# Altium integrated library Zilog Logic Counter.IntLib: 23 symbols
Pins are listed as number, name and electrical type; pins without a type are passive.

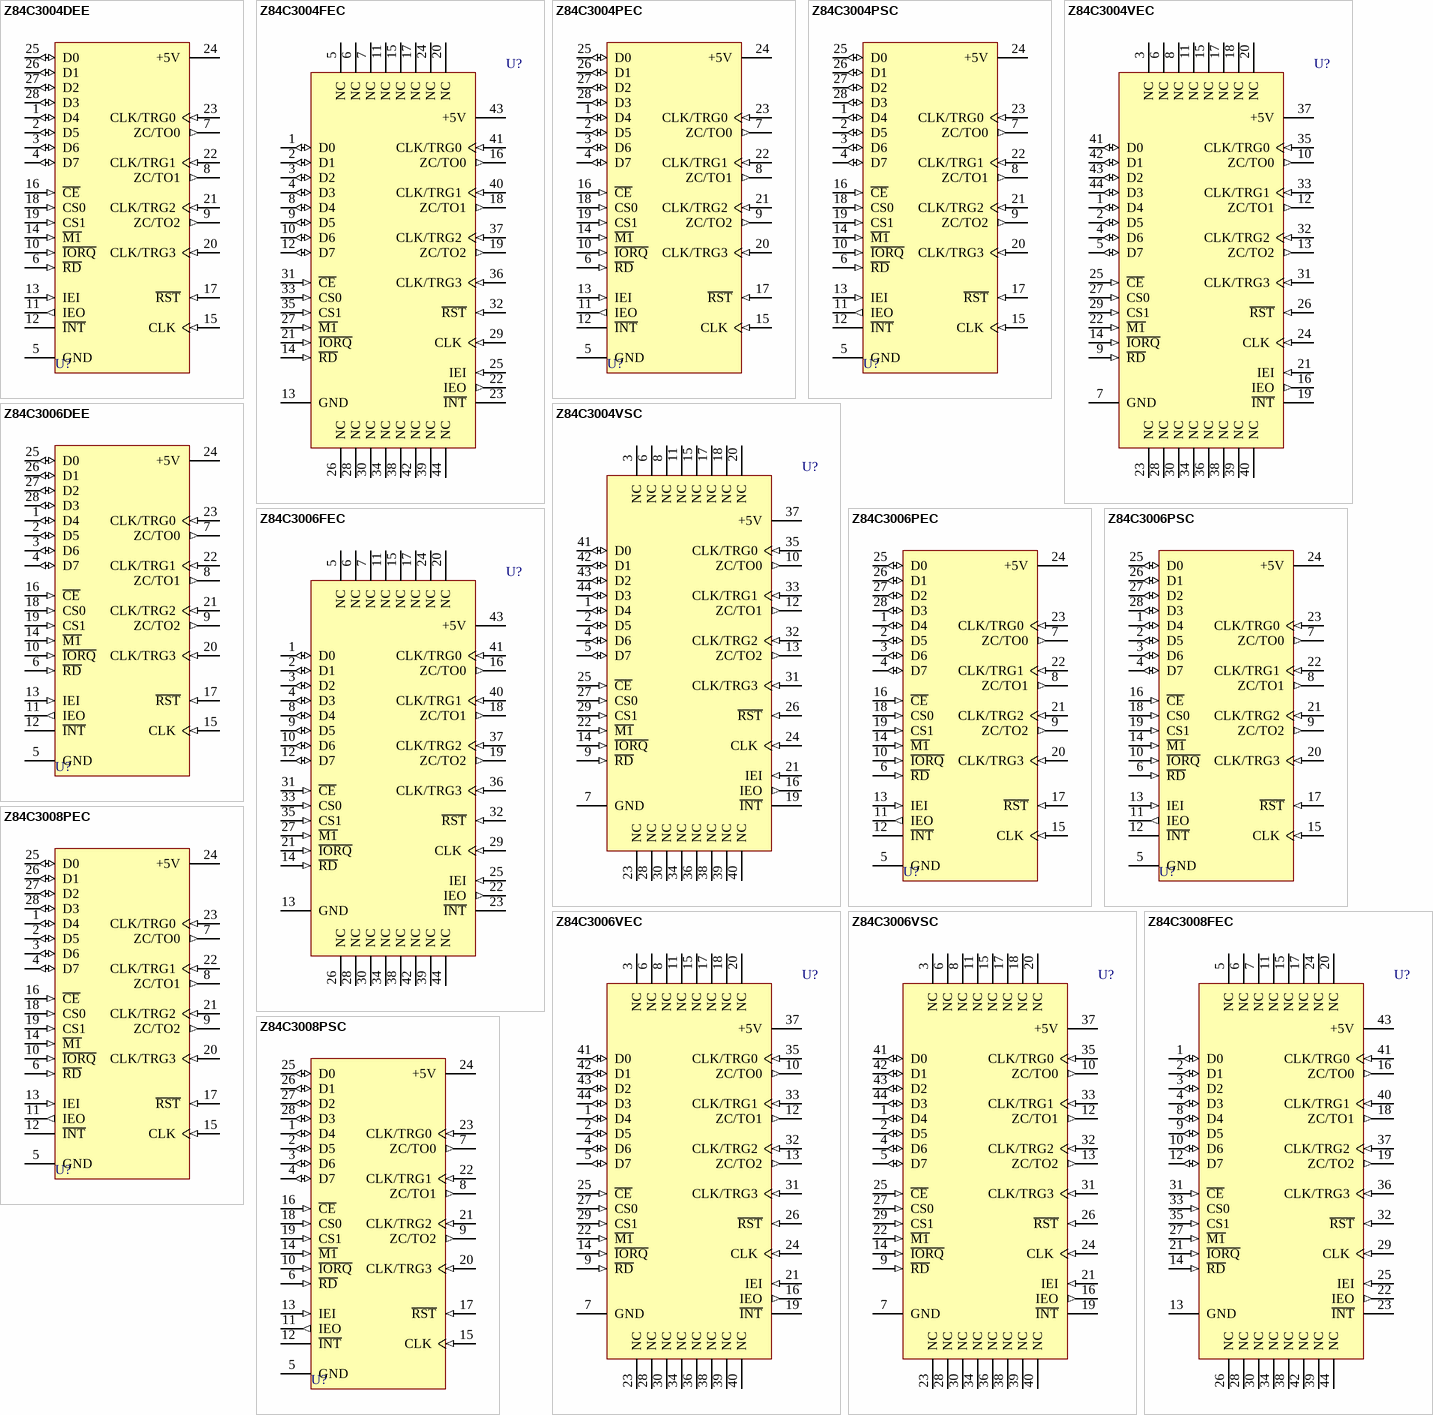
[diagram p0: symbols Z84C3004DEE to Z84C3008PSC]

## Z84C3004DEE
designator U?
CMOS Four-Channel Counter/Timer Circuit; Note: Pin(s) 28 "No Connection" and not drawn.; Published: 15-Apr-2002; LatestRevisionDate: 04-Mar-2005; LatestRevisionNote: Stylized 3D Model Added.; DatasheetVersion: 2001; PackageVersion: 2001; PackageReference: CerDIP28; Publisher: Altium Limited; PackageDescription: DIP; 28 Leads; Row Spacing 15.24 mm; Pitch 2.54 mm; ComponentLink1Description: Manufacturer Link; ComponentLink1URL: http://www.zilog.com/; ComponentLink2Description: Datasheet; ComponentLink2URL: http://www.zilog.com/docs/z80/um0081.pdf
footprint CerDIP28 (DIP; 28 Leads; Row Spacing 15.24 mm; Pitch 2.54 mm)
3D model PDIP28 (DIP; 28 Leads; Row Spacing 15.24 mm; Pitch 2.54 mm)
pins: 1 D4 (io), 2 D5 (io), 3 D6 (io), 4 D7 (io), 5 GND (power), 6 ~{RD} (in), 7 ZC/TO0 (out), 8 ZC/TO1 (out), 9 ZC/TO2 (out), 10 ~{IORQ} (in), 11 IEO (out), 12 ~{INT} (oc), 13 IEI (in), 14 ~{M1} (in), 15 CLK (in), 16 ~{CE} (in), 17 ~{RST} (in), 18 CS0 (in), 19 CS1 (in), 20 CLK/TRG3 (in), 21 CLK/TRG2 (in), 22 CLK/TRG1 (in), 23 CLK/TRG0 (in), 24 +5V (power), 25 D0 (io), 26 D1 (io), 27 D2 (io), 28 D3 (io)

## Z84C3004FEC
designator U?
CMOS Four-Channel Counter/Timer Circuit; Published: 15-Apr-2002; LatestRevisionDate: 13-Apr-2006; LatestRevisionNote: IPC-7351 Footprint Added.; DatasheetVersion: 2001; PackageReference: PQFP44; Publisher: Altium Limited; PackageDescription: 44-Pin Quad Flat Pack 0.8 mm Pitch; ComponentLink1Description: Manufacturer Link; ComponentLink1URL: http://www.zilog.com/; ComponentLink2Description: Datasheet; ComponentLink2URL: http://www.zilog.com/docs/z80/um0081.pdf
footprint PQFP44_N (QFP, 44-Leads, Body 10x10mm, Pitch 0.8mm, IPC Medium Density)
footprint PQFP44_L (QFP, 44-Leads, Body 10x10mm, Pitch 0.8mm, IPC High Density)
footprint PQFP44_M (QFP, 44-Leads, Body 10x10mm, Pitch 0.8mm, IPC Low Density)
3D model Z84C30-PQFP44 (44-Pin Quad Flat Pack 0.8 mm Pitch)
pins: 1 D0 (io), 2 D1 (io), 3 D2 (io), 4 D3 (io), 5 NC, 6 NC, 7 NC, 8 D4 (io), 9 D5 (io), 10 D6 (io), 11 NC, 12 D7 (io), 13 GND (power), 14 ~{RD} (in), 15 NC, 16 ZC/TO0 (out), 17 NC, 18 ZC/TO1 (out), 19 ZC/TO2 (out), 20 NC, 21 ~{IORQ} (in), 22 IEO (out), 23 ~{INT} (oc), 24 NC, 25 IEI (in), 26 NC, 27 ~{M1} (in), 28 NC, 29 CLK (in), 30 NC, 31 ~{CE} (in), 32 ~{RST} (in), 33 CS0 (in), 34 NC, 35 CS1 (in), 36 CLK/TRG3 (in), 37 CLK/TRG2 (in), 38 NC, 39 NC, 40 CLK/TRG1 (in), 41 CLK/TRG0 (in), 42 NC, 43 +5V (power), 44 NC

## Z84C3004PEC
designator U?
CMOS Four-Channel Counter/Timer Circuit; Note: Pin(s) 28 "No Connection" and not drawn.; Published: 15-Apr-2002; LatestRevisionDate: 04-Mar-2005; LatestRevisionNote: Stylized 3D Model Added.; DatasheetVersion: 2001; PackageVersion: 2001; PackageReference: PDIP28; Publisher: Altium Limited; PackageDescription: DIP; 28 Leads; Row Spacing 15.24 mm; Pitch 2.54 mm; ComponentLink1Description: Manufacturer Link; ComponentLink1URL: http://www.zilog.com/; ComponentLink2Description: Datasheet; ComponentLink2URL: http://www.zilog.com/docs/z80/um0081.pdf
footprint PDIP28 (DIP; 28 Leads; Row Spacing 15.24 mm; Pitch 2.54 mm)
3D model PDIP28 (DIP; 28 Leads; Row Spacing 15.24 mm; Pitch 2.54 mm)
pins: 1 D4 (io), 2 D5 (io), 3 D6 (io), 4 D7 (io), 5 GND (power), 6 ~{RD} (in), 7 ZC/TO0 (out), 8 ZC/TO1 (out), 9 ZC/TO2 (out), 10 ~{IORQ} (in), 11 IEO (out), 12 ~{INT} (oc), 13 IEI (in), 14 ~{M1} (in), 15 CLK (in), 16 ~{CE} (in), 17 ~{RST} (in), 18 CS0 (in), 19 CS1 (in), 20 CLK/TRG3 (in), 21 CLK/TRG2 (in), 22 CLK/TRG1 (in), 23 CLK/TRG0 (in), 24 +5V (power), 25 D0 (io), 26 D1 (io), 27 D2 (io), 28 D3 (io)

## Z84C3004PSC
designator U?
CMOS Four-Channel Counter/Timer Circuit; Note: Pin(s) 28 "No Connection" and not drawn.; Published: 15-Apr-2002; LatestRevisionDate: 04-Mar-2005; LatestRevisionNote: Stylized 3D Model Added.; DatasheetVersion: 2001; PackageVersion: 2001; PackageReference: PDIP28; Publisher: Altium Limited; PackageDescription: DIP; 28 Leads; Row Spacing 15.24 mm; Pitch 2.54 mm; ComponentLink1Description: Manufacturer Link; ComponentLink1URL: http://www.zilog.com/; ComponentLink2Description: Datasheet; ComponentLink2URL: http://www.zilog.com/docs/z80/um0081.pdf
footprint PDIP28 (DIP; 28 Leads; Row Spacing 15.24 mm; Pitch 2.54 mm)
3D model PDIP28 (DIP; 28 Leads; Row Spacing 15.24 mm; Pitch 2.54 mm)
pins: 1 D4 (io), 2 D5 (io), 3 D6 (io), 4 D7 (io), 5 GND (power), 6 ~{RD} (in), 7 ZC/TO0 (out), 8 ZC/TO1 (out), 9 ZC/TO2 (out), 10 ~{IORQ} (in), 11 IEO (out), 12 ~{INT} (oc), 13 IEI (in), 14 ~{M1} (in), 15 CLK (in), 16 ~{CE} (in), 17 ~{RST} (in), 18 CS0 (in), 19 CS1 (in), 20 CLK/TRG3 (in), 21 CLK/TRG2 (in), 22 CLK/TRG1 (in), 23 CLK/TRG0 (in), 24 +5V (power), 25 D0 (io), 26 D1 (io), 27 D2 (io), 28 D3 (io)

## Z84C3004VEC
designator U?
CMOS Four-Channel Counter/Timer Circuit; Published: 15-Apr-2002; LatestRevisionDate: 13-Apr-2006; LatestRevisionNote: IPC-7351 Footprint Added.; DatasheetVersion: 2001; PackageReference: PCC44; Publisher: Altium Limited; PackageDescription: 44-Pin Leaded Chip Carrier 1.27 mm Pitch; Code_IPC: PLCC-44; ComponentLink1Description: Manufacturer Link; ComponentLink1URL: http://www.zilog.com/; ComponentLink2Description: Datasheet; ComponentLink2URL: http://www.zilog.com/docs/z80/um0081.pdf
footprint PCC44_N (Leaded Chip Carrier, 44-Leads, Body 16.6x16.6mm, Pitch 1.27mm, IPC Medium Density)
footprint PCC44_L (Leaded Chip Carrier, 44-Leads, Body 16.6x16.6mm, Pitch 1.27mm, IPC High Density)
footprint PCC44_M (Leaded Chip Carrier, 44-Leads, Body 16.6x16.6mm, Pitch 1.27mm, IPC Low Density)
3D model Z84C30-PCC44 (44-Pin Leaded Chip Carrier 1.27 mm Pitch)
pins: 1 D4 (io), 2 D5 (io), 3 NC, 4 D6 (io), 5 D7 (io), 6 NC, 7 GND (power), 8 NC, 9 ~{RD} (in), 10 ZC/TO0 (out), 11 NC, 12 ZC/TO1 (out), 13 ZC/TO2 (out), 14 ~{IORQ} (in), 15 NC, 16 IEO (out), 17 NC, 18 NC, 19 ~{INT} (oc), 20 NC, 21 IEI (in), 22 ~{M1} (in), 23 NC, 24 CLK (in), 25 ~{CE} (in), 26 ~{RST} (in), 27 CS0 (in), 28 NC, 29 CS1 (in), 30 NC, 31 CLK/TRG3 (in), 32 CLK/TRG2 (in), 33 CLK/TRG1 (in), 34 NC, 35 CLK/TRG0 (in), 36 NC, 37 +5V (power), 38 NC, 39 NC, 40 NC, 41 D0 (io), 42 D1 (io), 43 D2 (io), 44 D3 (io)

## Z84C3004VSC
designator U?
CMOS Four-Channel Counter/Timer Circuit; Published: 15-Apr-2002; LatestRevisionDate: 13-Apr-2006; LatestRevisionNote: IPC-7351 Footprint Added.; DatasheetVersion: 2001; PackageReference: PCC44; Publisher: Altium Limited; PackageDescription: 44-Pin Leaded Chip Carrier 1.27 mm Pitch; Code_IPC: PLCC-44; ComponentLink1Description: Manufacturer Link; ComponentLink1URL: http://www.zilog.com/; ComponentLink2Description: Datasheet; ComponentLink2URL: http://www.zilog.com/docs/z80/um0081.pdf
footprint PCC44_N (Leaded Chip Carrier, 44-Leads, Body 16.6x16.6mm, Pitch 1.27mm, IPC Medium Density)
footprint PCC44_L (Leaded Chip Carrier, 44-Leads, Body 16.6x16.6mm, Pitch 1.27mm, IPC High Density)
footprint PCC44_M (Leaded Chip Carrier, 44-Leads, Body 16.6x16.6mm, Pitch 1.27mm, IPC Low Density)
3D model Z84C30-PCC44 (44-Pin Leaded Chip Carrier 1.27 mm Pitch)
pins: 1 D4 (io), 2 D5 (io), 3 NC, 4 D6 (io), 5 D7 (io), 6 NC, 7 GND (power), 8 NC, 9 ~{RD} (in), 10 ZC/TO0 (out), 11 NC, 12 ZC/TO1 (out), 13 ZC/TO2 (out), 14 ~{IORQ} (in), 15 NC, 16 IEO (out), 17 NC, 18 NC, 19 ~{INT} (oc), 20 NC, 21 IEI (in), 22 ~{M1} (in), 23 NC, 24 CLK (in), 25 ~{CE} (in), 26 ~{RST} (in), 27 CS0 (in), 28 NC, 29 CS1 (in), 30 NC, 31 CLK/TRG3 (in), 32 CLK/TRG2 (in), 33 CLK/TRG1 (in), 34 NC, 35 CLK/TRG0 (in), 36 NC, 37 +5V (power), 38 NC, 39 NC, 40 NC, 41 D0 (io), 42 D1 (io), 43 D2 (io), 44 D3 (io)

## Z84C3006DEE
designator U?
CMOS Four-Channel Counter/Timer Circuit; Note: Pin(s) 28 "No Connection" and not drawn.; Published: 15-Apr-2002; LatestRevisionDate: 04-Mar-2005; LatestRevisionNote: Stylized 3D Model Added.; DatasheetVersion: 2001; PackageVersion: 2001; PackageReference: CerDIP28; Publisher: Altium Limited; PackageDescription: DIP; 28 Leads; Row Spacing 15.24 mm; Pitch 2.54 mm; ComponentLink1Description: Manufacturer Link; ComponentLink1URL: http://www.zilog.com/; ComponentLink2Description: Datasheet; ComponentLink2URL: http://www.zilog.com/docs/z80/um0081.pdf
footprint CerDIP28 (DIP; 28 Leads; Row Spacing 15.24 mm; Pitch 2.54 mm)
3D model PDIP28 (DIP; 28 Leads; Row Spacing 15.24 mm; Pitch 2.54 mm)
pins: 1 D4 (io), 2 D5 (io), 3 D6 (io), 4 D7 (io), 5 GND (power), 6 ~{RD} (in), 7 ZC/TO0 (out), 8 ZC/TO1 (out), 9 ZC/TO2 (out), 10 ~{IORQ} (in), 11 IEO (out), 12 ~{INT} (oc), 13 IEI (in), 14 ~{M1} (in), 15 CLK (in), 16 ~{CE} (in), 17 ~{RST} (in), 18 CS0 (in), 19 CS1 (in), 20 CLK/TRG3 (in), 21 CLK/TRG2 (in), 22 CLK/TRG1 (in), 23 CLK/TRG0 (in), 24 +5V (power), 25 D0 (io), 26 D1 (io), 27 D2 (io), 28 D3 (io)

## Z84C3006FEC
designator U?
CMOS Four-Channel Counter/Timer Circuit; Published: 15-Apr-2002; LatestRevisionDate: 13-Apr-2006; LatestRevisionNote: IPC-7351 Footprint Added.; DatasheetVersion: 2001; PackageReference: PQFP44; Publisher: Altium Limited; PackageDescription: 44-Pin Quad Flat Pack 0.8 mm Pitch; ComponentLink1Description: Manufacturer Link; ComponentLink1URL: http://www.zilog.com/; ComponentLink2Description: Datasheet; ComponentLink2URL: http://www.zilog.com/docs/z80/um0081.pdf
footprint PQFP44_N (QFP, 44-Leads, Body 10x10mm, Pitch 0.8mm, IPC Medium Density)
footprint PQFP44_L (QFP, 44-Leads, Body 10x10mm, Pitch 0.8mm, IPC High Density)
footprint PQFP44_M (QFP, 44-Leads, Body 10x10mm, Pitch 0.8mm, IPC Low Density)
3D model Z84C30-PQFP44 (44-Pin Quad Flat Pack 0.8 mm Pitch)
pins: 1 D0 (io), 2 D1 (io), 3 D2 (io), 4 D3 (io), 5 NC, 6 NC, 7 NC, 8 D4 (io), 9 D5 (io), 10 D6 (io), 11 NC, 12 D7 (io), 13 GND (power), 14 ~{RD} (in), 15 NC, 16 ZC/TO0 (out), 17 NC, 18 ZC/TO1 (out), 19 ZC/TO2 (out), 20 NC, 21 ~{IORQ} (in), 22 IEO (out), 23 ~{INT} (oc), 24 NC, 25 IEI (in), 26 NC, 27 ~{M1} (in), 28 NC, 29 CLK (in), 30 NC, 31 ~{CE} (in), 32 ~{RST} (in), 33 CS0 (in), 34 NC, 35 CS1 (in), 36 CLK/TRG3 (in), 37 CLK/TRG2 (in), 38 NC, 39 NC, 40 CLK/TRG1 (in), 41 CLK/TRG0 (in), 42 NC, 43 +5V (power), 44 NC

## Z84C3006PEC
designator U?
CMOS Four-Channel Counter/Timer Circuit; Note: Pin(s) 28 "No Connection" and not drawn.; Published: 15-Apr-2002; LatestRevisionDate: 04-Mar-2005; LatestRevisionNote: Stylized 3D Model Added.; DatasheetVersion: 2001; PackageVersion: 2001; PackageReference: PDIP28; Publisher: Altium Limited; PackageDescription: DIP; 28 Leads; Row Spacing 15.24 mm; Pitch 2.54 mm; ComponentLink1Description: Manufacturer Link; ComponentLink1URL: http://www.zilog.com/; ComponentLink2Description: Datasheet; ComponentLink2URL: http://www.zilog.com/docs/z80/um0081.pdf
footprint PDIP28 (DIP; 28 Leads; Row Spacing 15.24 mm; Pitch 2.54 mm)
3D model PDIP28 (DIP; 28 Leads; Row Spacing 15.24 mm; Pitch 2.54 mm)
pins: 1 D4 (io), 2 D5 (io), 3 D6 (io), 4 D7 (io), 5 GND (power), 6 ~{RD} (in), 7 ZC/TO0 (out), 8 ZC/TO1 (out), 9 ZC/TO2 (out), 10 ~{IORQ} (in), 11 IEO (out), 12 ~{INT} (oc), 13 IEI (in), 14 ~{M1} (in), 15 CLK (in), 16 ~{CE} (in), 17 ~{RST} (in), 18 CS0 (in), 19 CS1 (in), 20 CLK/TRG3 (in), 21 CLK/TRG2 (in), 22 CLK/TRG1 (in), 23 CLK/TRG0 (in), 24 +5V (power), 25 D0 (io), 26 D1 (io), 27 D2 (io), 28 D3 (io)

## Z84C3006PSC
designator U?
CMOS Four-Channel Counter/Timer Circuit; Note: Pin(s) 28 "No Connection" and not drawn.; Published: 15-Apr-2002; LatestRevisionDate: 04-Mar-2005; LatestRevisionNote: Stylized 3D Model Added.; DatasheetVersion: 2001; PackageVersion: 2001; PackageReference: PDIP28; Publisher: Altium Limited; PackageDescription: DIP; 28 Leads; Row Spacing 15.24 mm; Pitch 2.54 mm; ComponentLink1Description: Manufacturer Link; ComponentLink1URL: http://www.zilog.com/; ComponentLink2Description: Datasheet; ComponentLink2URL: http://www.zilog.com/docs/z80/um0081.pdf
footprint PDIP28 (DIP; 28 Leads; Row Spacing 15.24 mm; Pitch 2.54 mm)
3D model PDIP28 (DIP; 28 Leads; Row Spacing 15.24 mm; Pitch 2.54 mm)
pins: 1 D4 (io), 2 D5 (io), 3 D6 (io), 4 D7 (io), 5 GND (power), 6 ~{RD} (in), 7 ZC/TO0 (out), 8 ZC/TO1 (out), 9 ZC/TO2 (out), 10 ~{IORQ} (in), 11 IEO (out), 12 ~{INT} (oc), 13 IEI (in), 14 ~{M1} (in), 15 CLK (in), 16 ~{CE} (in), 17 ~{RST} (in), 18 CS0 (in), 19 CS1 (in), 20 CLK/TRG3 (in), 21 CLK/TRG2 (in), 22 CLK/TRG1 (in), 23 CLK/TRG0 (in), 24 +5V (power), 25 D0 (io), 26 D1 (io), 27 D2 (io), 28 D3 (io)

## Z84C3006VEC
designator U?
CMOS Four-Channel Counter/Timer Circuit; Published: 15-Apr-2002; LatestRevisionDate: 13-Apr-2006; LatestRevisionNote: IPC-7351 Footprint Added.; DatasheetVersion: 2001; PackageReference: PCC44; Publisher: Altium Limited; PackageDescription: 44-Pin Leaded Chip Carrier 1.27 mm Pitch; Code_IPC: PLCC-44; ComponentLink1Description: Manufacturer Link; ComponentLink1URL: http://www.zilog.com/; ComponentLink2Description: Datasheet; ComponentLink2URL: http://www.zilog.com/docs/z80/um0081.pdf
footprint PCC44_N (Leaded Chip Carrier, 44-Leads, Body 16.6x16.6mm, Pitch 1.27mm, IPC Medium Density)
footprint PCC44_L (Leaded Chip Carrier, 44-Leads, Body 16.6x16.6mm, Pitch 1.27mm, IPC High Density)
footprint PCC44_M (Leaded Chip Carrier, 44-Leads, Body 16.6x16.6mm, Pitch 1.27mm, IPC Low Density)
3D model Z84C30-PCC44 (44-Pin Leaded Chip Carrier 1.27 mm Pitch)
pins: 1 D4 (io), 2 D5 (io), 3 NC, 4 D6 (io), 5 D7 (io), 6 NC, 7 GND (power), 8 NC, 9 ~{RD} (in), 10 ZC/TO0 (out), 11 NC, 12 ZC/TO1 (out), 13 ZC/TO2 (out), 14 ~{IORQ} (in), 15 NC, 16 IEO (out), 17 NC, 18 NC, 19 ~{INT} (oc), 20 NC, 21 IEI (in), 22 ~{M1} (in), 23 NC, 24 CLK (in), 25 ~{CE} (in), 26 ~{RST} (in), 27 CS0 (in), 28 NC, 29 CS1 (in), 30 NC, 31 CLK/TRG3 (in), 32 CLK/TRG2 (in), 33 CLK/TRG1 (in), 34 NC, 35 CLK/TRG0 (in), 36 NC, 37 +5V (power), 38 NC, 39 NC, 40 NC, 41 D0 (io), 42 D1 (io), 43 D2 (io), 44 D3 (io)

## Z84C3006VSC
designator U?
CMOS Four-Channel Counter/Timer Circuit; Published: 15-Apr-2002; LatestRevisionDate: 13-Apr-2006; LatestRevisionNote: IPC-7351 Footprint Added.; DatasheetVersion: 2001; PackageReference: PCC44; Publisher: Altium Limited; PackageDescription: 44-Pin Leaded Chip Carrier 1.27 mm Pitch; Code_IPC: PLCC-44; ComponentLink1Description: Manufacturer Link; ComponentLink1URL: http://www.zilog.com/; ComponentLink2Description: Datasheet; ComponentLink2URL: http://www.zilog.com/docs/z80/um0081.pdf
footprint PCC44_N (Leaded Chip Carrier, 44-Leads, Body 16.6x16.6mm, Pitch 1.27mm, IPC Medium Density)
footprint PCC44_L (Leaded Chip Carrier, 44-Leads, Body 16.6x16.6mm, Pitch 1.27mm, IPC High Density)
footprint PCC44_M (Leaded Chip Carrier, 44-Leads, Body 16.6x16.6mm, Pitch 1.27mm, IPC Low Density)
3D model Z84C30-PCC44 (44-Pin Leaded Chip Carrier 1.27 mm Pitch)
pins: 1 D4 (io), 2 D5 (io), 3 NC, 4 D6 (io), 5 D7 (io), 6 NC, 7 GND (power), 8 NC, 9 ~{RD} (in), 10 ZC/TO0 (out), 11 NC, 12 ZC/TO1 (out), 13 ZC/TO2 (out), 14 ~{IORQ} (in), 15 NC, 16 IEO (out), 17 NC, 18 NC, 19 ~{INT} (oc), 20 NC, 21 IEI (in), 22 ~{M1} (in), 23 NC, 24 CLK (in), 25 ~{CE} (in), 26 ~{RST} (in), 27 CS0 (in), 28 NC, 29 CS1 (in), 30 NC, 31 CLK/TRG3 (in), 32 CLK/TRG2 (in), 33 CLK/TRG1 (in), 34 NC, 35 CLK/TRG0 (in), 36 NC, 37 +5V (power), 38 NC, 39 NC, 40 NC, 41 D0 (io), 42 D1 (io), 43 D2 (io), 44 D3 (io)

## Z84C3008FEC
designator U?
CMOS Four-Channel Counter/Timer Circuit; Published: 15-Apr-2002; LatestRevisionDate: 13-Apr-2006; LatestRevisionNote: IPC-7351 Footprint Added.; DatasheetVersion: 2001; PackageReference: PQFP44; Publisher: Altium Limited; PackageDescription: 44-Pin Quad Flat Pack 0.8 mm Pitch; ComponentLink1Description: Manufacturer Link; ComponentLink1URL: http://www.zilog.com/; ComponentLink2Description: Datasheet; ComponentLink2URL: http://www.zilog.com/docs/z80/um0081.pdf
footprint PQFP44_N (QFP, 44-Leads, Body 10x10mm, Pitch 0.8mm, IPC Medium Density)
footprint PQFP44_L (QFP, 44-Leads, Body 10x10mm, Pitch 0.8mm, IPC High Density)
footprint PQFP44_M (QFP, 44-Leads, Body 10x10mm, Pitch 0.8mm, IPC Low Density)
3D model Z84C30-PQFP44 (44-Pin Quad Flat Pack 0.8 mm Pitch)
pins: 1 D0 (io), 2 D1 (io), 3 D2 (io), 4 D3 (io), 5 NC, 6 NC, 7 NC, 8 D4 (io), 9 D5 (io), 10 D6 (io), 11 NC, 12 D7 (io), 13 GND (power), 14 ~{RD} (in), 15 NC, 16 ZC/TO0 (out), 17 NC, 18 ZC/TO1 (out), 19 ZC/TO2 (out), 20 NC, 21 ~{IORQ} (in), 22 IEO (out), 23 ~{INT} (oc), 24 NC, 25 IEI (in), 26 NC, 27 ~{M1} (in), 28 NC, 29 CLK (in), 30 NC, 31 ~{CE} (in), 32 ~{RST} (in), 33 CS0 (in), 34 NC, 35 CS1 (in), 36 CLK/TRG3 (in), 37 CLK/TRG2 (in), 38 NC, 39 NC, 40 CLK/TRG1 (in), 41 CLK/TRG0 (in), 42 NC, 43 +5V (power), 44 NC

## Z84C3008PEC
designator U?
CMOS Four-Channel Counter/Timer Circuit; Note: Pin(s) 28 "No Connection" and not drawn.; Published: 15-Apr-2002; LatestRevisionDate: 04-Mar-2005; LatestRevisionNote: Stylized 3D Model Added.; DatasheetVersion: 2001; PackageVersion: 2001; PackageReference: PDIP28; Publisher: Altium Limited; PackageDescription: DIP; 28 Leads; Row Spacing 15.24 mm; Pitch 2.54 mm; ComponentLink1Description: Manufacturer Link; ComponentLink1URL: http://www.zilog.com/; ComponentLink2Description: Datasheet; ComponentLink2URL: http://www.zilog.com/docs/z80/um0081.pdf
footprint PDIP28 (DIP; 28 Leads; Row Spacing 15.24 mm; Pitch 2.54 mm)
3D model PDIP28 (DIP; 28 Leads; Row Spacing 15.24 mm; Pitch 2.54 mm)
pins: 1 D4 (io), 2 D5 (io), 3 D6 (io), 4 D7 (io), 5 GND (power), 6 ~{RD} (in), 7 ZC/TO0 (out), 8 ZC/TO1 (out), 9 ZC/TO2 (out), 10 ~{IORQ} (in), 11 IEO (out), 12 ~{INT} (oc), 13 IEI (in), 14 ~{M1} (in), 15 CLK (in), 16 ~{CE} (in), 17 ~{RST} (in), 18 CS0 (in), 19 CS1 (in), 20 CLK/TRG3 (in), 21 CLK/TRG2 (in), 22 CLK/TRG1 (in), 23 CLK/TRG0 (in), 24 +5V (power), 25 D0 (io), 26 D1 (io), 27 D2 (io), 28 D3 (io)

## Z84C3008PSC
designator U?
CMOS Four-Channel Counter/Timer Circuit; Published: 15-Apr-2002; LatestRevisionDate: 04-Mar-2005; LatestRevisionNote: Stylized 3D Model Added.; DatasheetVersion: 2001; PackageVersion: 2001; PackageReference: PDIP28; Publisher: Altium Limited; PackageDescription: DIP; 28 Leads; Row Spacing 15.24 mm; Pitch 2.54 mm; ComponentLink1Description: Manufacturer Link; ComponentLink1URL: http://www.zilog.com/; ComponentLink2Description: Datasheet; ComponentLink2URL: http://www.zilog.com/docs/z80/um0081.pdf
footprint PDIP28 (DIP; 28 Leads; Row Spacing 15.24 mm; Pitch 2.54 mm)
3D model PDIP28 (DIP; 28 Leads; Row Spacing 15.24 mm; Pitch 2.54 mm)
pins: 1 D4 (io), 2 D5 (io), 3 D6 (io), 4 D7 (io), 5 GND (power), 6 ~{RD} (in), 7 ZC/TO0 (out), 8 ZC/TO1 (out), 9 ZC/TO2 (out), 10 ~{IORQ} (in), 11 IEO (out), 12 ~{INT} (oc), 13 IEI (in), 14 ~{M1} (in), 15 CLK (in), 16 ~{CE} (in), 17 ~{RST} (in), 18 CS0 (in), 19 CS1 (in), 20 CLK/TRG3 (in), 21 CLK/TRG2 (in), 22 CLK/TRG1 (in), 23 CLK/TRG0 (in), 24 +5V (power), 25 D0 (io), 26 D1 (io), 27 D2 (io), 28 D3 (io)

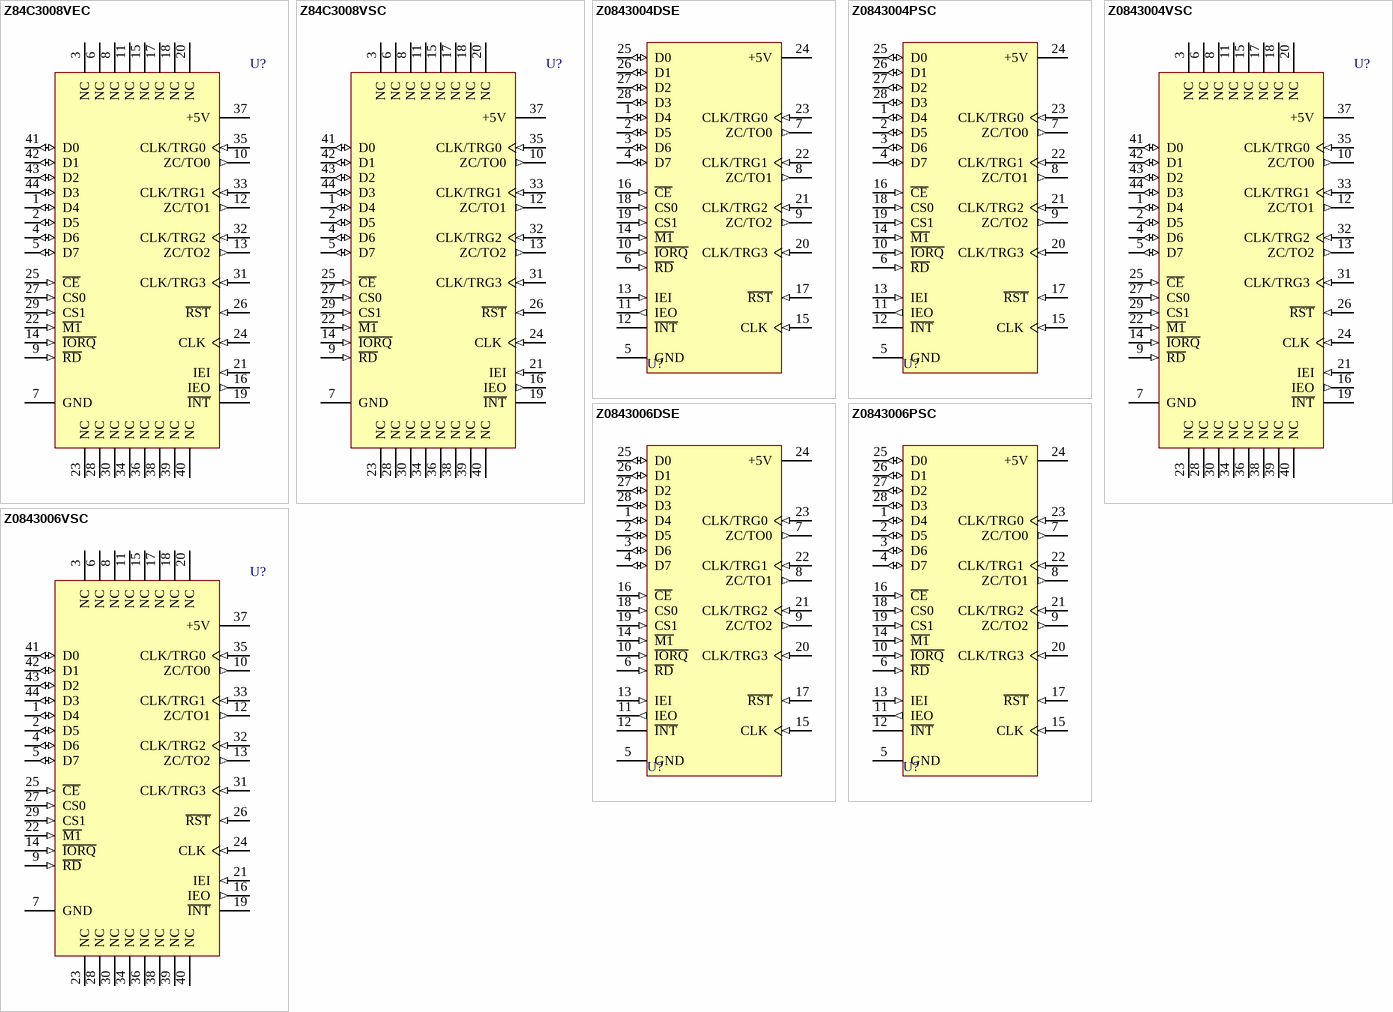
[diagram p1: symbols Z84C3008VEC to Z0843006VSC]

## Z84C3008VEC
designator U?
CMOS Four-Channel Counter/Timer Circuit; Published: 15-Apr-2002; LatestRevisionDate: 13-Apr-2006; LatestRevisionNote: IPC-7351 Footprint Added.; DatasheetVersion: 2001; PackageReference: PCC44; Publisher: Altium Limited; PackageDescription: 44-Pin Leaded Chip Carrier 1.27 mm Pitch; Code_IPC: PLCC-44; ComponentLink1Description: Manufacturer Link; ComponentLink1URL: http://www.zilog.com/; ComponentLink2Description: Datasheet; ComponentLink2URL: http://www.zilog.com/docs/z80/um0081.pdf
footprint PCC44_N (Leaded Chip Carrier, 44-Leads, Body 16.6x16.6mm, Pitch 1.27mm, IPC Medium Density)
footprint PCC44_L (Leaded Chip Carrier, 44-Leads, Body 16.6x16.6mm, Pitch 1.27mm, IPC High Density)
footprint PCC44_M (Leaded Chip Carrier, 44-Leads, Body 16.6x16.6mm, Pitch 1.27mm, IPC Low Density)
3D model Z84C30-PCC44 (44-Pin Leaded Chip Carrier 1.27 mm Pitch)
pins: 1 D4 (io), 2 D5 (io), 3 NC, 4 D6 (io), 5 D7 (io), 6 NC, 7 GND (power), 8 NC, 9 ~{RD} (in), 10 ZC/TO0 (out), 11 NC, 12 ZC/TO1 (out), 13 ZC/TO2 (out), 14 ~{IORQ} (in), 15 NC, 16 IEO (out), 17 NC, 18 NC, 19 ~{INT} (oc), 20 NC, 21 IEI (in), 22 ~{M1} (in), 23 NC, 24 CLK (in), 25 ~{CE} (in), 26 ~{RST} (in), 27 CS0 (in), 28 NC, 29 CS1 (in), 30 NC, 31 CLK/TRG3 (in), 32 CLK/TRG2 (in), 33 CLK/TRG1 (in), 34 NC, 35 CLK/TRG0 (in), 36 NC, 37 +5V (power), 38 NC, 39 NC, 40 NC, 41 D0 (io), 42 D1 (io), 43 D2 (io), 44 D3 (io)

## Z84C3008VSC
designator U?
CMOS Four-Channel Counter/Timer Circuit; Published: 15-Apr-2002; LatestRevisionDate: 13-Apr-2006; LatestRevisionNote: IPC-7351 Footprint Added.; DatasheetVersion: 2001; PackageReference: PCC44; Publisher: Altium Limited; PackageDescription: 44-Pin Leaded Chip Carrier 1.27 mm Pitch; Code_IPC: PLCC-44; ComponentLink1Description: Manufacturer Link; ComponentLink1URL: http://www.zilog.com/; ComponentLink2Description: Datasheet; ComponentLink2URL: http://www.zilog.com/docs/z80/um0081.pdf
footprint PCC44_N (Leaded Chip Carrier, 44-Leads, Body 16.6x16.6mm, Pitch 1.27mm, IPC Medium Density)
footprint PCC44_L (Leaded Chip Carrier, 44-Leads, Body 16.6x16.6mm, Pitch 1.27mm, IPC High Density)
footprint PCC44_M (Leaded Chip Carrier, 44-Leads, Body 16.6x16.6mm, Pitch 1.27mm, IPC Low Density)
3D model Z84C30-PCC44 (44-Pin Leaded Chip Carrier 1.27 mm Pitch)
pins: 1 D4 (io), 2 D5 (io), 3 NC, 4 D6 (io), 5 D7 (io), 6 NC, 7 GND (power), 8 NC, 9 ~{RD} (in), 10 ZC/TO0 (out), 11 NC, 12 ZC/TO1 (out), 13 ZC/TO2 (out), 14 ~{IORQ} (in), 15 NC, 16 IEO (out), 17 NC, 18 NC, 19 ~{INT} (oc), 20 NC, 21 IEI (in), 22 ~{M1} (in), 23 NC, 24 CLK (in), 25 ~{CE} (in), 26 ~{RST} (in), 27 CS0 (in), 28 NC, 29 CS1 (in), 30 NC, 31 CLK/TRG3 (in), 32 CLK/TRG2 (in), 33 CLK/TRG1 (in), 34 NC, 35 CLK/TRG0 (in), 36 NC, 37 +5V (power), 38 NC, 39 NC, 40 NC, 41 D0 (io), 42 D1 (io), 43 D2 (io), 44 D3 (io)

## Z0843004DSE
designator U?
NMOS Four-Channel Counter/Timer Circuit; Published: 15-Apr-2002; LatestRevisionDate: 04-Mar-2005; LatestRevisionNote: Stylized 3D Model Added.; DatasheetVersion: 2001; PackageVersion: 2001; PackageReference: CerDIP28; Publisher: Altium Limited; PackageDescription: DIP; 28 Leads; Row Spacing 15.24 mm; Pitch 2.54 mm; ComponentLink1Description: Manufacturer Link; ComponentLink1URL: http://www.zilog.com/; ComponentLink2Description: Datasheet; ComponentLink2URL: http://www.zilog.com/docs/z80/um0081.pdf
footprint CerDIP28 (DIP; 28 Leads; Row Spacing 15.24 mm; Pitch 2.54 mm)
3D model PDIP28 (DIP; 28 Leads; Row Spacing 15.24 mm; Pitch 2.54 mm)
pins: 1 D4 (io), 2 D5 (io), 3 D6 (io), 4 D7 (io), 5 GND (power), 6 ~{RD} (in), 7 ZC/TO0 (out), 8 ZC/TO1 (out), 9 ZC/TO2 (out), 10 ~{IORQ} (in), 11 IEO (out), 12 ~{INT} (oc), 13 IEI (in), 14 ~{M1} (in), 15 CLK (in), 16 ~{CE} (in), 17 ~{RST} (in), 18 CS0 (in), 19 CS1 (in), 20 CLK/TRG3 (in), 21 CLK/TRG2 (in), 22 CLK/TRG1 (in), 23 CLK/TRG0 (in), 24 +5V (power), 25 D0 (io), 26 D1 (io), 27 D2 (io), 28 D3 (io)

## Z0843004PSC
designator U?
NMOS Four-Channel Counter/Timer Circuit; Note: Pin(s) 28 "No Connection" and not drawn.; Published: 15-Apr-2002; LatestRevisionDate: 04-Mar-2005; LatestRevisionNote: Stylized 3D Model Added.; DatasheetVersion: 2001; PackageVersion: 2001; PackageReference: PDIP28; Publisher: Altium Limited; PackageDescription: DIP; 28 Leads; Row Spacing 15.24 mm; Pitch 2.54 mm; ComponentLink1Description: Manufacturer Link; ComponentLink1URL: http://www.zilog.com/; ComponentLink2Description: Datasheet; ComponentLink2URL: http://www.zilog.com/docs/z80/um0081.pdf
footprint PDIP28 (DIP; 28 Leads; Row Spacing 15.24 mm; Pitch 2.54 mm)
3D model PDIP28 (DIP; 28 Leads; Row Spacing 15.24 mm; Pitch 2.54 mm)
pins: 1 D4 (io), 2 D5 (io), 3 D6 (io), 4 D7 (io), 5 GND (power), 6 ~{RD} (in), 7 ZC/TO0 (out), 8 ZC/TO1 (out), 9 ZC/TO2 (out), 10 ~{IORQ} (in), 11 IEO (out), 12 ~{INT} (oc), 13 IEI (in), 14 ~{M1} (in), 15 CLK (in), 16 ~{CE} (in), 17 ~{RST} (in), 18 CS0 (in), 19 CS1 (in), 20 CLK/TRG3 (in), 21 CLK/TRG2 (in), 22 CLK/TRG1 (in), 23 CLK/TRG0 (in), 24 +5V (power), 25 D0 (io), 26 D1 (io), 27 D2 (io), 28 D3 (io)

## Z0843004VSC
designator U?
NMOS Four-Channel Counter/Timer Circuit; Published: 15-Apr-2002; LatestRevisionDate: 13-Apr-2006; LatestRevisionNote: IPC-7351 Footprint Added.; DatasheetVersion: 2001; PackageReference: PCC44; Publisher: Altium Limited; PackageDescription: 44-Pin Leaded Chip Carrier 1.27 mm Pitch; Code_IPC: PLCC-44; ComponentLink1Description: Manufacturer Link; ComponentLink1URL: http://www.zilog.com/; ComponentLink2Description: Datasheet; ComponentLink2URL: http://www.zilog.com/docs/z80/um0081.pdf
footprint PCC44_N (Leaded Chip Carrier, 44-Leads, Body 16.6x16.6mm, Pitch 1.27mm, IPC Medium Density)
footprint PCC44_L (Leaded Chip Carrier, 44-Leads, Body 16.6x16.6mm, Pitch 1.27mm, IPC High Density)
footprint PCC44_M (Leaded Chip Carrier, 44-Leads, Body 16.6x16.6mm, Pitch 1.27mm, IPC Low Density)
3D model Z08430-PCC44 (44-Pin Leaded Chip Carrier 1.27 mm Pitch)
pins: 1 D4 (io), 2 D5 (io), 3 NC, 4 D6 (io), 5 D7 (io), 6 NC, 7 GND (power), 8 NC, 9 ~{RD} (in), 10 ZC/TO0 (out), 11 NC, 12 ZC/TO1 (out), 13 ZC/TO2 (out), 14 ~{IORQ} (in), 15 NC, 16 IEO (out), 17 NC, 18 NC, 19 ~{INT} (oc), 20 NC, 21 IEI (in), 22 ~{M1} (in), 23 NC, 24 CLK (in), 25 ~{CE} (in), 26 ~{RST} (in), 27 CS0 (in), 28 NC, 29 CS1 (in), 30 NC, 31 CLK/TRG3 (in), 32 CLK/TRG2 (in), 33 CLK/TRG1 (in), 34 NC, 35 CLK/TRG0 (in), 36 NC, 37 +5V (power), 38 NC, 39 NC, 40 NC, 41 D0 (io), 42 D1 (io), 43 D2 (io), 44 D3 (io)

## Z0843006DSE
designator U?
NMOS Four-Channel Counter/Timer Circuit; Note: Pin(s) 28 "No Connection" and not drawn.; Published: 15-Apr-2002; LatestRevisionDate: 04-Mar-2005; LatestRevisionNote: Stylized 3D Model Added.; DatasheetVersion: 2001; PackageVersion: 2001; PackageReference: CerDIP28; Publisher: Altium Limited; PackageDescription: DIP; 28 Leads; Row Spacing 15.24 mm; Pitch 2.54 mm; ComponentLink1Description: Manufacturer Link; ComponentLink1URL: http://www.zilog.com/; ComponentLink2Description: Datasheet; ComponentLink2URL: http://www.zilog.com/docs/z80/um0081.pdf
footprint CerDIP28 (DIP; 28 Leads; Row Spacing 15.24 mm; Pitch 2.54 mm)
3D model PDIP28 (DIP; 28 Leads; Row Spacing 15.24 mm; Pitch 2.54 mm)
pins: 1 D4 (io), 2 D5 (io), 3 D6 (io), 4 D7 (io), 5 GND (power), 6 ~{RD} (in), 7 ZC/TO0 (out), 8 ZC/TO1 (out), 9 ZC/TO2 (out), 10 ~{IORQ} (in), 11 IEO (out), 12 ~{INT} (oc), 13 IEI (in), 14 ~{M1} (in), 15 CLK (in), 16 ~{CE} (in), 17 ~{RST} (in), 18 CS0 (in), 19 CS1 (in), 20 CLK/TRG3 (in), 21 CLK/TRG2 (in), 22 CLK/TRG1 (in), 23 CLK/TRG0 (in), 24 +5V (power), 25 D0 (io), 26 D1 (io), 27 D2 (io), 28 D3 (io)

## Z0843006PSC
designator U?
NMOS Four-Channel Counter/Timer Circuit; Note: Pin(s) 28 "No Connection" and not drawn.; Published: 15-Apr-2002; LatestRevisionDate: 04-Mar-2005; LatestRevisionNote: Stylized 3D Model Added.; DatasheetVersion: 2001; PackageVersion: 2001; PackageReference: PDIP28; Publisher: Altium Limited; PackageDescription: DIP; 28 Leads; Row Spacing 15.24 mm; Pitch 2.54 mm; ComponentLink1Description: Manufacturer Link; ComponentLink1URL: http://www.zilog.com/; ComponentLink2Description: Datasheet; ComponentLink2URL: http://www.zilog.com/docs/z80/um0081.pdf
footprint PDIP28 (DIP; 28 Leads; Row Spacing 15.24 mm; Pitch 2.54 mm)
3D model PDIP28 (DIP; 28 Leads; Row Spacing 15.24 mm; Pitch 2.54 mm)
pins: 1 D4 (io), 2 D5 (io), 3 D6 (io), 4 D7 (io), 5 GND (power), 6 ~{RD} (in), 7 ZC/TO0 (out), 8 ZC/TO1 (out), 9 ZC/TO2 (out), 10 ~{IORQ} (in), 11 IEO (out), 12 ~{INT} (oc), 13 IEI (in), 14 ~{M1} (in), 15 CLK (in), 16 ~{CE} (in), 17 ~{RST} (in), 18 CS0 (in), 19 CS1 (in), 20 CLK/TRG3 (in), 21 CLK/TRG2 (in), 22 CLK/TRG1 (in), 23 CLK/TRG0 (in), 24 +5V (power), 25 D0 (io), 26 D1 (io), 27 D2 (io), 28 D3 (io)

## Z0843006VSC
designator U?
NMOS Four-Channel Counter/Timer Circuit; Published: 15-Apr-2002; LatestRevisionDate: 13-Apr-2006; LatestRevisionNote: IPC-7351 Footprint Added.; DatasheetVersion: 2001; PackageReference: PCC44; Publisher: Altium Limited; PackageDescription: 44-Pin Leaded Chip Carrier 1.27 mm Pitch; Code_IPC: PLCC-44; ComponentLink1Description: Manufacturer Link; ComponentLink1URL: http://www.zilog.com/; ComponentLink2Description: Datasheet; ComponentLink2URL: http://www.zilog.com/docs/z80/um0081.pdf
footprint PCC44_N (Leaded Chip Carrier, 44-Leads, Body 16.6x16.6mm, Pitch 1.27mm, IPC Medium Density)
footprint PCC44_L (Leaded Chip Carrier, 44-Leads, Body 16.6x16.6mm, Pitch 1.27mm, IPC High Density)
footprint PCC44_M (Leaded Chip Carrier, 44-Leads, Body 16.6x16.6mm, Pitch 1.27mm, IPC Low Density)
3D model Z08430-PCC44 (44-Pin Leaded Chip Carrier 1.27 mm Pitch)
pins: 1 D4 (io), 2 D5 (io), 3 NC, 4 D6 (io), 5 D7 (io), 6 NC, 7 GND (power), 8 NC, 9 ~{RD} (in), 10 ZC/TO0 (out), 11 NC, 12 ZC/TO1 (out), 13 ZC/TO2 (out), 14 ~{IORQ} (in), 15 NC, 16 IEO (out), 17 NC, 18 NC, 19 ~{INT} (oc), 20 NC, 21 IEI (in), 22 ~{M1} (in), 23 NC, 24 CLK (in), 25 ~{CE} (in), 26 ~{RST} (in), 27 CS0 (in), 28 NC, 29 CS1 (in), 30 NC, 31 CLK/TRG3 (in), 32 CLK/TRG2 (in), 33 CLK/TRG1 (in), 34 NC, 35 CLK/TRG0 (in), 36 NC, 37 +5V (power), 38 NC, 39 NC, 40 NC, 41 D0 (io), 42 D1 (io), 43 D2 (io), 44 D3 (io)